# Altium integrated library LM380N-8_NOPB.IntLib: 1 symbol
Pins are listed as number, name and electrical type; pins without a type are passive.

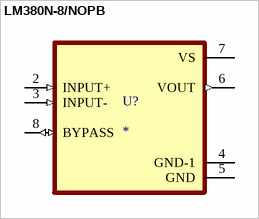
[diagram p0: symbol LM380N-8/NOPB]

## LM380N-8/NOPB
designator U?
MP: LM380N-8/NOPB; Package: None; Price: None; Value: *; Availability: Unavailable
footprint DIP794W45P254L959H508Q8
pins: 2 INPUT+ (in), 3 INPUT- (in), 4 GND-1 (power), 5 GND (power), 6 VOUT (out), 7 VS (power), 8 BYPASS (io)